# EAGLE library part MPX5010DP (library mpx5010dp)
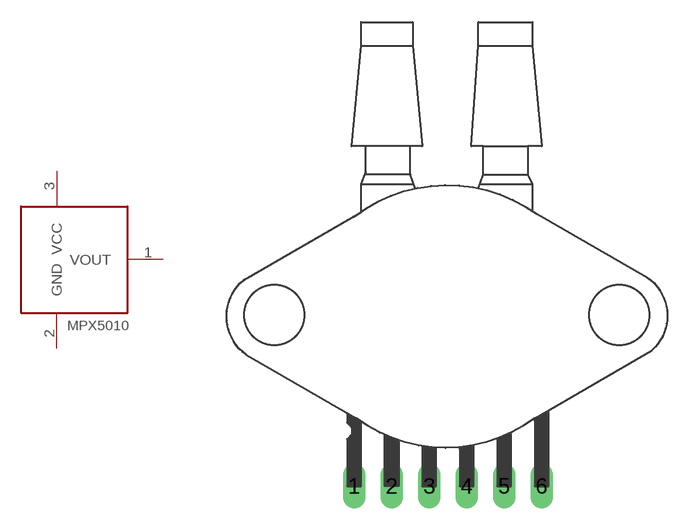
[diagram p0: symbol with the pads of MPX5010DP; footprint MPX5010DP]

Designator prefix -

## MPX5010DP  [MPX5010DP]
1  VOUT  out
2  GND  pwr
3  VCC  pwr
4  P$1  nc
5  P$2  nc
6  P$3  nc

## Footprint MPX5010DP (pad centres in mm)
PIN HEADER
drill 1.016 long: 1 -6.35,-11.43; 2 -3.81,-11.43; 3 -1.27,-11.43; 4 1.27,-11.43; 5 3.81,-11.43; 6 6.35,-11.43